# EAGLE library part MICROSD_AMPHENOL_MICROSD_AMPHENOL (library stm32f410rb_pcm5100)
AMPHENOL COMMERCIAL PRODUCTS The 114-00841-68 is a top mount microSD Memory Card Connector with gold-plated contact and tin-plated solder tail. http://ro.farnell.com/amphenol-commercial-products/114-00841-68/memory-card-connector-microsd/dp/2293708?CMP=i-ddd7-00001003
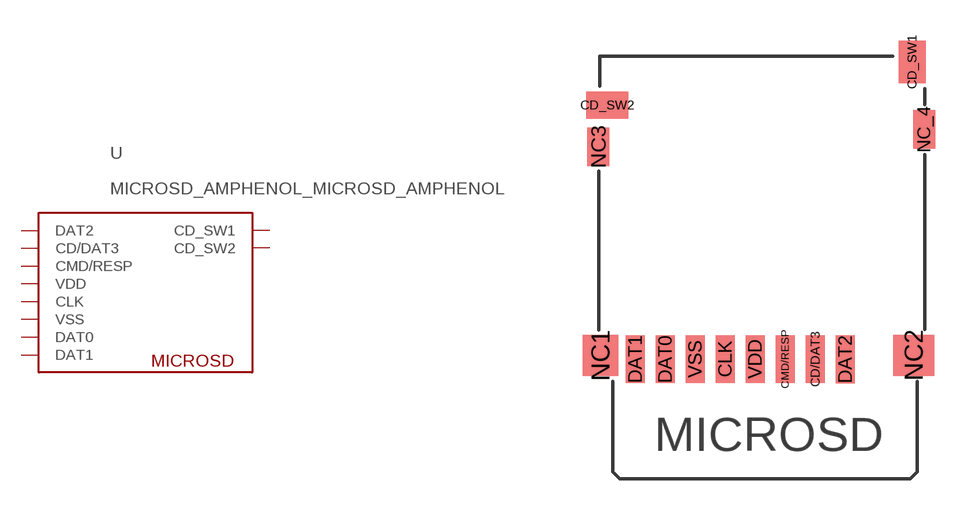
[diagram p0: symbol with the pads of MICROSD_AMPHENOL_MICROSD_AMPHENOL; footprint MICROSD_AMPHENOL_MICROSD_AMPHENOL]

Designator prefix -

## MICROSD_AMPHENOL_MICROSD_AMPHENOL  [MICROSD_AMPHENOL_MICROSD_AMPHENOL]
CD/DAT3  CD/DAT3
CD_SW1  CD_SW1
CD_SW2  CD_SW2
CLK  CLK
CMD/RESP  CMD/RESP
DAT0  DAT0
DAT1  DAT1
DAT2  DAT2
VDD  VDD
VSS  VSS

## Footprint MICROSD_AMPHENOL_MICROSD_AMPHENOL (pad centres in mm)
smd 0.7 x 1.75: CD/DAT3 2.1,-5.51; CLK -1.2,-5.51; CMD/RESP 1,-5.51; DAT0 -3.4,-5.51; DAT1 -4.5,-5.51; DAT2 3.21,-5.52; VDD -0.1,-5.51; VSS -2.3,-5.51
smd 1 x 1.55: CD_SW1 5.66,5.41
smd 1.55 x 1: CD_SW2 -5.53,3.82
smd 1.3 x 1.5: NC1 -5.78,-5.38
smd 1.5 x 1.5: NC2 5.72,-5.37
smd 0.8 x 1.4: NC3 -5.86,2.29; NC_4 6.1,2.93